# Altium schematic symbol library MPC17531ATEJ.SchLib: 1 symbol
Pins are listed as number, name and electrical type; pins without a type are passive.

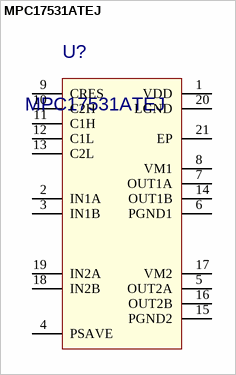
[diagram p0: symbol MPC17531ATEJ]

## MPC17531ATEJ
designator U?
ComponentLink1DescBC: Manufacturer Link; ComponentLink2DescA4: Datasheet; Published: 13-Oct-2000; LatestRevisionDate: 06-Jun-2005; LatestRevisionNote: Stylized 3D Model Added.; DatasheetDocument: 19-Feb-1998; PackageReference: TSSOP20; Publisher: Altium Limited; ComponentLink1URL: http://www.maxim-ic.com/; ComponentLink2URL: http://pdfserv.maxim-ic.com/en/ds/DS229.pdf; Value: *
footprint TSSOP20 VMFP
pins: 1 VDD, 2 IN1A, 3 IN1B, 4 PSAVE, 5 OUT2A, 6 PGND1, 7 OUT1A, 8 VM1, 9 CRES, 10 C2H, 11 C1H (power), 12 C1L (power), 13 C2L (power), 14 OUT1B, 15 PGND2, 16 OUT2B, 17 VM2 (power), 18 IN2B, 19 IN2A, 20 LGND, 21 EP